# EAGLE library part 74HCT109PW (library NXP_By_element14_Batch_1)
Dual JK flip-flop with set and reset
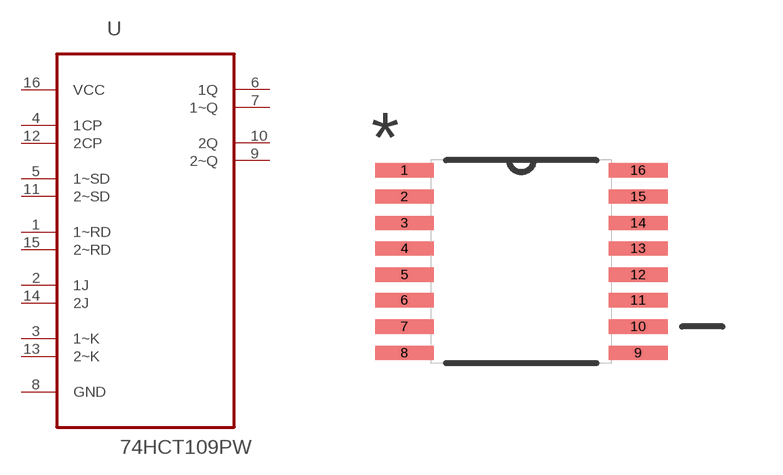
[diagram p168: symbol with the pads of SOP65P640X110-16N; footprint SOP65P640X110-16N]

Designator prefix U

## 74HCT109PW (MPN: 74HCT109PW; OC_FARNELL: 1631677; OC_NEWARK: 03P2744; PACKAGE: TSSOP-16; SUPPLIER: NXP)  [SOP65P640X110-16N]
1  1~RD  in
2  1J  in
3  1~K  in
4  1CP  in
5  1~SD  in
6  1Q  out
7  1~Q  out
8  GND  pas
9  2~Q  out
10  2Q  out
11  2~SD  in
12  2CP  in
13  2~K  in
14  2J  in
15  2~RD  in
16  VCC  pwr

## Footprint SOP65P640X110-16N (pad centres in mm)
smd 1.473 x 0.356: 1 -2.921,2.286; 2 -2.921,1.626; 3 -2.921,0.965; 4 -2.921,0.33; 5 -2.921,-0.33; 6 -2.921,-0.965; 7 -2.921,-1.626; 8 -2.921,-2.286; 9 2.921,-2.286; 10 2.921,-1.626; 11 2.921,-0.965; 12 2.921,-0.33; 13 2.921,0.33; 14 2.921,0.965; 15 2.921,1.626; 16 2.921,2.286